# EAGLE library part SD-CARD (library Namenlos)
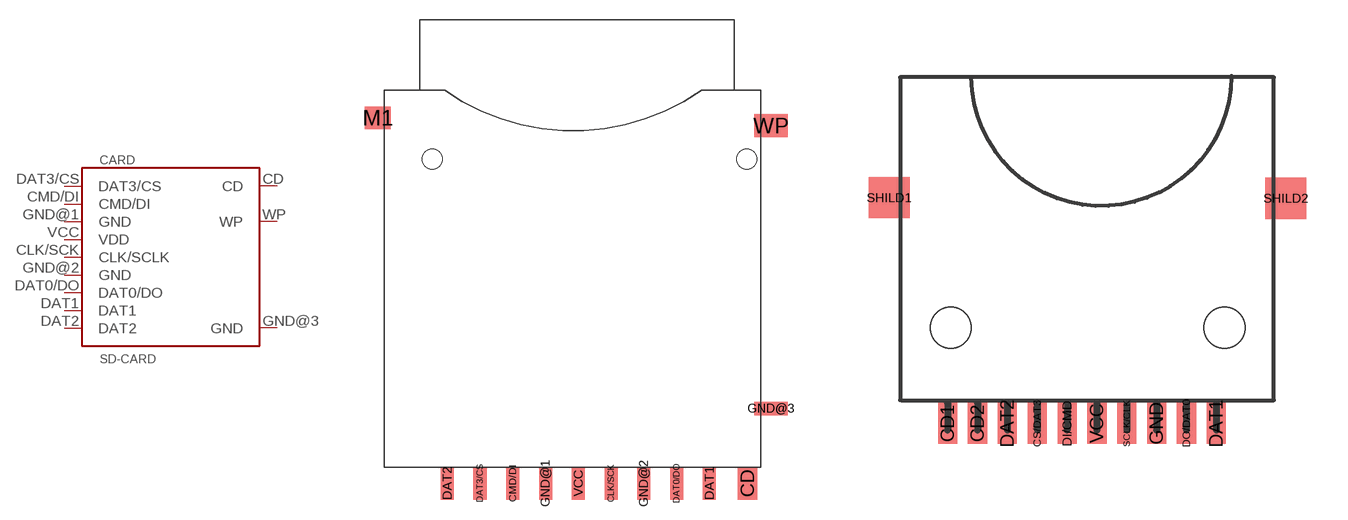
[diagram p41: symbol with the pads of SDCARD; footprints SDCARD, ST-TF-DETECT]

Designator prefix CARD

## SD-CARDSD  [SDCARD]
CD  CD  out
CLK/SCK  CLK/SCLK
CMD/DI  CMD/DI
DAT0/DO  DAT0/DO
DAT1  DAT1
DAT2  DAT2
DAT3/CS  DAT3/CS
GND@1  GND  pwr
GND@2  GND  pwr
GND@3  GND  pwr
VCC  VDD  pwr
WP  WP  out

## SD-CARD  [ST-TF-DETECT]

## Footprint SDCARD (pad centres in mm)
smd 1.5 x 2.54: CD 12.9,-11.54
smd 1 x 2.54: CLK/SCK 2.5,-11.54; CMD/DI -5,-11.54; DAT0/DO 7.5,-11.54; DAT1 10,-11.54; DAT2 -10,-11.54; DAT3/CS -7.5,-11.54; GND@1 -2.5,-11.54; GND@2 5,-11.54; VCC 0,-11.54
smd 2.54 x 1: GND@3 14.7,-5.84
smd 2 x 1.75: M1 -15.3,16.36
smd 2.54 x 1.75: WP 14.7,15.76
hole 1.5 at -11.15,13.21
hole 1.5 at 12.85,13.21

## Footprint ST-TF-DETECT (pad centres in mm)
smd 0.7 x 1.5: CD1 -5.29,-2.91; CD2 -4.2,-2.91; CS/DAT3 -2.02,-2.91; DAT1 4.52,-2.91; DAT2 -3.11,-2.91; DI/CMD -0.93,-2.91; DO/DAT0 3.43,-2.91; GND 2.34,-2.91; SCLK/CLK 1.25,-2.91; VCC 0.16,-2.91
smd 1.5 x 1.5: SHILD1 -7.43,5.34; SHILD2 7.06,5.32
hole 1.5 at -5.18,0.59
hole 1.5 at 4.82,0.59